# Altium schematic symbol library USB_TypeC_Schematics.SchLib: 1 symbol
Pins are listed as number, name and electrical type; pins without a type are passive.

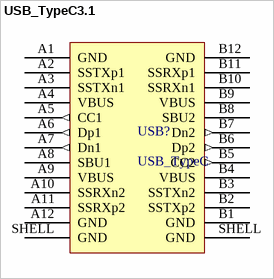
[diagram p0: symbol USB_TypeC3.1]

## USB_TypeC3.1
designator USB?, comment USB_TypeC
footprint TYPE-C-TH_USB31-TYPEC-33141-2FS
pins: A1 GND (power), A2 SSTXp1, A3 SSTXn1, A4 VBUS (power), A5 CC1 (out), A6 Dp1 (out), A7 Dn1 (out), A8 SBU1, A9 VBUS (power), A10 SSRXn2, A11 SSRXp2, A12 GND (power), B1 GND (power), B2 SSTXp2, B3 SSTXn2, B4 VBUS (power), B5 CC2 (out), B6 Dp2 (out), B7 Dn2 (out), B8 SBU2, B9 VBUS (power), B10 SSRXn1, B11 SSRXp1, B12 GND (power), SHELL GND (power), SHELL GND (power)